# Altium footprint library MPU.PcbLib: 1 footprints
Each footprint in its own frame and in the unit in brackets; x right, y up, seen from the top. Pads: shape width x height; smd on the part's side, far side on the other; paste and mask are expansions set on the pad; w line width, h text height; cw(c..) or ccw(c..) is an arc to the next point about the centre after c.
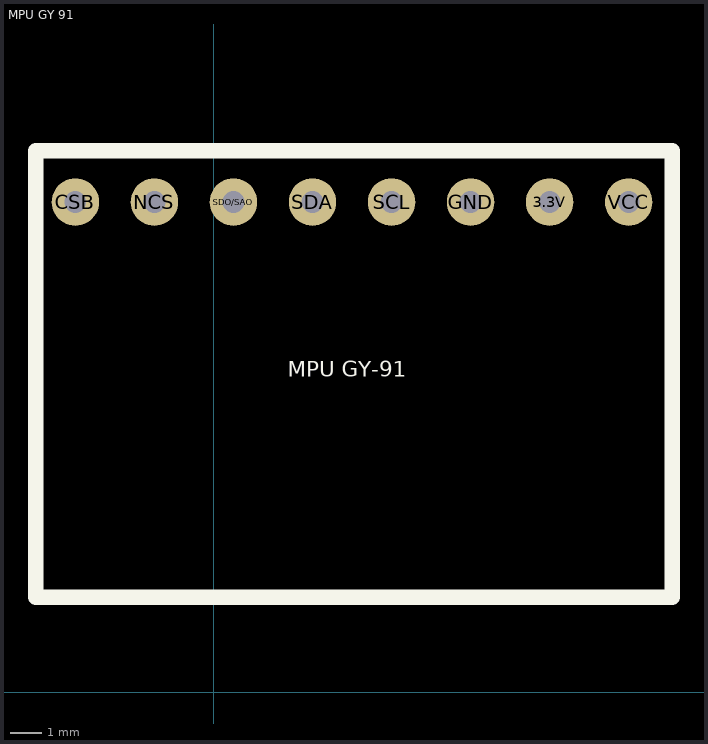
[diagram p0: the footprint, top view; thin cyan lines are the x and y axes]

## MPU GY 91 [mil]
pads (8):
  round 60 hole 27.56: 3.3V(425,620) CSB(-175,620) GND(325,620) NCS(-75,620) SCL(225,620) SDA(125,620) SDO/SAO(25,620) VCC(525,620)
Top Overlay:
  lines w19.68: -225,120 580,120 580,685 -225,685 -225,120
  text "MPU GY-91" at 93.94,398.94 h19.68
3D body "GY-91_MPU9250+BMP280 - Pins Down.STEP": height 329.57, standoff -176.94, extent -225,131.38 575,678.62